# Altium footprint library Button_Switch_SMD.PcbLib: 14 footprints
Each footprint in its own frame and in the unit in brackets; x right, y up, seen from the top. Pads: shape width x height; smd on the part's side, far side on the other; paste and mask are expansions set on the pad; w line width, h text height; cw(c..) or ccw(c..) is an arc to the next point about the centre after c.
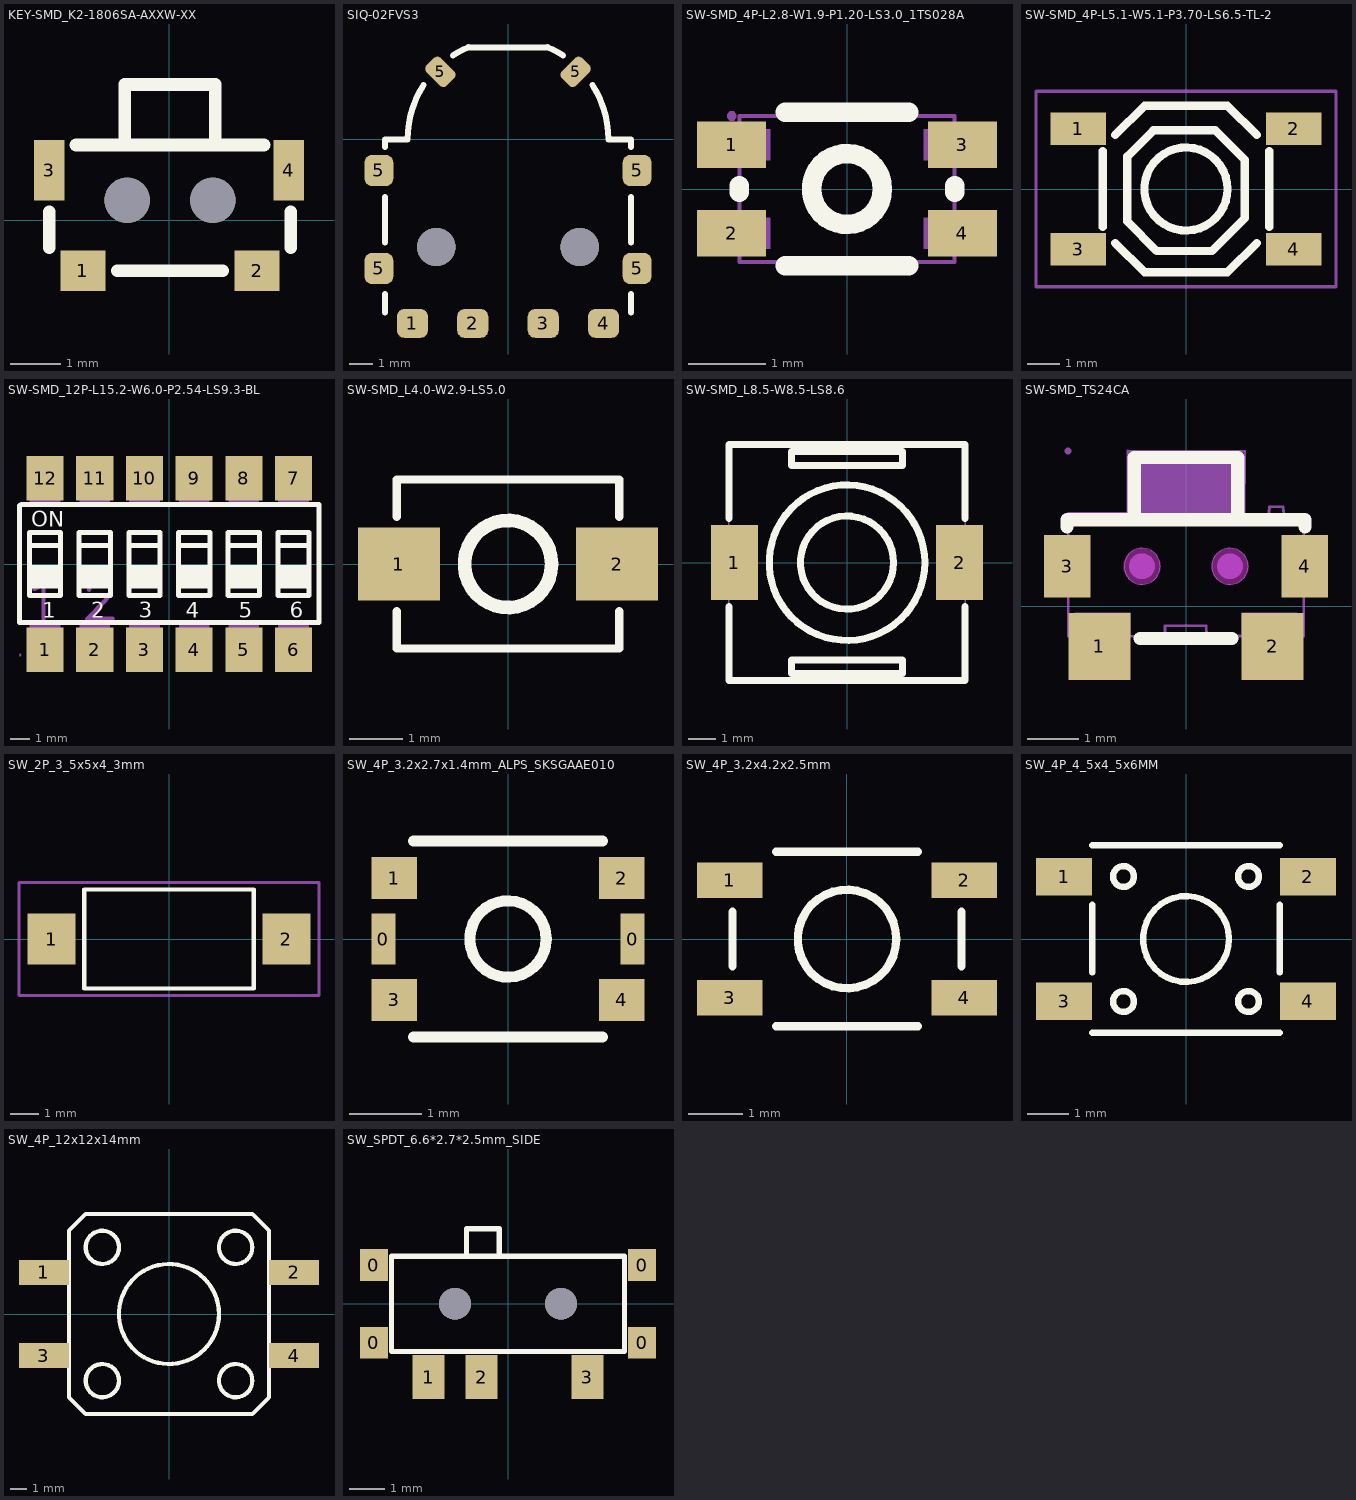
[diagram p0: the footprints below, top view; thin cyan lines are the x and y axes]

## KEY-SMD_K2-1806SA-AXXW-XX [mm]
pads (6):
  rect 0.9x0.8 smd: 1(-1.71,-1) 2(1.75,-1)
  rect 0.6x1.2 smd: 3(-2.38,1) 4(2.38,1)
  round 0.9 hole 0.9 unplated: ""(-0.831,0.4) ""(0.871,0.4)
Top Overlay:
  lines w0.254: -2.38,-0.535 -2.38,0.169 ; -1.029,-1.001 1.069,-1.001 ; 1.889,1.5 0.92,1.5 ; 2.42,-0.535 2.42,0.169 ; -0.88,1.5 0.92,1.5 ; -0.88,1.5 -1.849,1.5 -0.88,1.5 ; -0.88,1.5 -0.88,2.7 0.92,2.7 0.92,1.5
3D body "switch_side.stp": height 1.8, standoff -0.5, extent -2.4,-1.075 2.4,2.625

## SIQ-02FVS3 [mm]
height 4.3
pads (10):
  rrect50% 1.3x1.2 smd: 1(-4,-7.7) 2(-1.475,-7.7) 3(1.475,-7.7) 4(4,-7.7)
  rrect50% 1.2x1.3 smd: 5(-5.4,-5.4) 5(-5.4,-1.3) 5(5.4,-5.4) 5(5.4,-1.3)
  rrect50% 0.85x1.2 smd rot 45: 5(-2.828,2.828)
  rrect50% 0.85x1.2 smd rot 135: 5(2.828,2.828)
via -3,-4.5 diameter 1.6 hole 1.6
via 3,-4.5 diameter 1.6 hole 1.6
Top Overlay:
  lines w0.254: -5.15,-7.25 -5.15,-6.477 ; -5.15,-4.318 -5.15,-2.402 ; -5.15,-0.324 -5.15,0 -4.2,0 cw(c0,0) -3.533,2.271 ; -2.298,3.515 cw(c0,0) -1.655,3.86 ; -1.655,3.85 1.655,3.85 ; 1.655,3.86 cw(c0,0) 2.298,3.515 ; 3.533,2.271 cw(c0,0) 4.2,0 5.15,0 5.15,-0.324 ; 5.15,-7.25 5.15,-6.477 ; 5.15,-4.318 5.15,-2.402
3D body "RE.step": height 4.06, standoff -0.44, extent -7.199,-7.5 7.199,7.25

## SW-SMD_4P-L2.8-W1.9-P1.20-LS3.0_1TS028A [mm]
pads (4):
  rect 0.9x0.6 smd: 1(-1.5,0.575) 2(-1.5,-0.575) 3(1.5,0.575) 4(1.5,-0.575)
Top Overlay:
  circle w0.254: c0,0 r0.461
  lines w0.254: -1.4,-0.044 -1.4,0.044 ; -0.8,-1 0.8,-1 ; -0.8,1 0.8,1 ; 1.4,-0.044 1.4,0.044
Mechanical 15:
  region: -1.44,0.95 -1.44,0.925 -1.475,0.89 -1.525,0.89 -1.56,0.925 -1.56,0.95 -1.56,0.975 -1.525,1.01 -1.475,1.01 -1.44,0.975 -1.44,0.95
  region: -1.5,0.775 -1,0.775 -1,0.375 -1.5,0.375
  region: -1.5,-0.375 -1,-0.375 -1,-0.775 -1.5,-0.775
  region: 1.5,0.375 1,0.375 1,0.775 1.5,0.775
  region: 1.5,-0.775 1,-0.775 1,-0.375 1.5,-0.375
  lines w0.051: -1.4,-0.95 -1.4,0.95 1.4,0.95 1.4,-0.95 -1.4,-0.95
3D body "1.step": height 0.58, standoff 0, extent -1.5,-1.05 1.5,1.05

## SW-SMD_4P-L5.1-W5.1-P3.70-LS6.5-TL-2 [mm]
pads (4):
  rect 1.7x1 smd: 1(-3.3,1.849) 2(3.3,1.85) 3(-3.3,-1.85) 4(3.3,-1.85)
Top Overlay:
  circle w0.254: c0,0 r1.275
  lines w0.254: -2.55,-1.168 -2.55,1.168 ; -2.17,-1.655 -1.275,-2.55 1.275,-2.55 2.17,-1.655 ; -2.17,1.655 -1.275,2.55 1.275,2.55 2.17,1.655 ; 2.55,-1.168 2.55,1.168 ; -1.801,-0.998 -1.801,1.001 -1.001,1.801 0.899,1.801 1.801,0.899 1.801,-0.899 0.8,-1.9 -0.899,-1.9 -1.801,-0.998
Mechanical 15:
  lines w0.102: -4.6,-3 -4.6,3 4.6,3 4.6,-3 -4.6,-3
3D body "SW1.stp": height 1.55, standoff 0, extent -3.2,-2.6 3.2,2.6

## SW-SMD_12P-L15.2-W6.0-P2.54-LS9.3-BL [mm]
pads (12):
  rect 1.9x2.28 smd paste+0.051: 1(-6.35,-4.375) 2(-3.81,-4.375) 3(-1.27,-4.375) 4(1.27,-4.375) 5(3.81,-4.375) 6(6.35,-4.375) 7(6.35,4.375) 8(3.81,4.375) 9(1.27,4.375) 10(-1.27,4.375) 11(-3.81,4.375) 12(-6.35,4.375)
Top Overlay:
  region: 5.673,-0.073 7.027,-0.073 7.027,-1.227 5.673,-1.227
  region: 3.133,-0.073 4.487,-0.073 4.487,-1.227 3.133,-1.227
  region: 0.593,-0.073 1.947,-0.073 1.947,-1.227 0.593,-1.227
  region: -1.947,-0.073 -0.593,-0.073 -0.593,-1.227 -1.947,-1.227
  region: -4.487,-0.073 -3.133,-0.073 -3.133,-1.227 -4.487,-1.227
  region: -7.027,-0.073 -5.673,-0.073 -5.673,-1.227 -7.027,-1.227
  lines w0.254: -7.65,2.95 -7.55,3.05 7.65,3.05 7.65,-3 -7.65,-3 -7.65,3 ; -7.1,0.95 -5.65,0.95 ; -4.56,0.95 -3.11,0.95 ; -2.02,0.95 -0.57,0.95 ; 0.52,0.95 1.97,0.95 ; 3.06,0.95 4.51,0.95 ; 5.6,0.95 7.05,0.95 ; -7.15,-1.6 -7.15,1.6 -5.55,1.6 -5.55,-1.6 -7.15,-1.6 ; -4.61,-1.6 -4.61,1.6 -3.01,1.6 -3.01,-1.6 -4.61,-1.6 ; -2.07,-1.6 -2.07,1.6 -0.47,1.6 -0.47,-1.6 -2.07,-1.6 ; 0.47,-1.6 0.47,1.6 2.07,1.6 2.07,-1.6 0.47,-1.6 ; 3.01,-1.6 3.01,1.6 4.61,1.6 4.61,-1.6 3.01,-1.6 ; 5.55,-1.6 5.55,1.6 7.15,1.6 7.15,-1.6 5.55,-1.6
  text "6" at 6.15,-2.749 h0.8
  text "5" at 3.55,-2.75 h0.8
  text "4" at 0.85,-2.75 h0.8
  text "3" at -1.55,-2.75 h0.8
  text "2" at -4,-2.75 h0.8
  text "1" at -6.5,-2.75 h0.8
  text "ON" at -7.05,1.9 h0.8
Mechanical 4:
  region: -4.204,-1.342 -4.19,-1.378 -4.168,-1.404 -4.126,-1.425 -4.096,-1.425 -4.056,-1.416 -4.037,-1.399 -4.011,-1.367 -4,-1.254 -3.926,-1.11 -3.858,-1.041 -3.706,-0.964 -3.384,-0.966 -3.237,-1.042 -3.162,-1.111 -3.096,-1.252 -3.093,-1.394 -3.345,-1.812 -4.278,-2.748 -4.289,-2.773 -4.296,-2.803 -4.293,-2.833 -4.278,-2.855 -4.25,-2.886 -4.214,-2.905 -2.887,-2.904 -2.872,-2.902 -2.863,-2.899 -2.855,-2.894 -2.846,-2.889 -2.836,-2.881 -2.827,-2.874 -2.816,-2.861 -2.806,-2.843 -2.8,-2.824 -2.798,-2.809 -2.8,-2.788 -2.805,-2.766 -2.815,-2.75 -2.826,-2.735 -2.842,-2.72 -2.865,-2.708 -2.888,-2.702 -3.948,-2.702 -3.186,-1.94 -2.998,-1.654 -2.899,-1.461 -2.888,-1.428 -2.888,-1.221 -2.896,-1.195 -3.001,-0.993 -3.111,-0.88 -3.332,-0.765 -3.745,-0.762 -3.973,-0.871 -4.095,-0.988 -4.202,-1.199 -4.204,-1.25
  region: -6.423,-0.801 -6.446,-0.802 -6.472,-0.807 -6.507,-0.838 -6.764,-1.097 -6.926,-1.175 -6.953,-1.191 -6.969,-1.207 -6.982,-1.23 -6.991,-1.251 -6.992,-1.277 -6.989,-1.298 -6.985,-1.311 -6.975,-1.33 -6.963,-1.344 -6.954,-1.352 -6.938,-1.362 -6.926,-1.367 -6.91,-1.371 -6.895,-1.373 -6.883,-1.372 -6.874,-1.373 -6.861,-1.368 -6.65,-1.265 -6.529,-1.148 -6.529,-2.844 -6.528,-2.858 -6.526,-2.87 -6.522,-2.88 -6.517,-2.891 -6.51,-2.902 -6.502,-2.912 -6.492,-2.921 -6.483,-2.928 -6.474,-2.932 -6.459,-2.939 -6.45,-2.941 -6.439,-2.943 -6.42,-2.944 -6.408,-2.942 -6.4,-2.94 -6.39,-2.937 -6.38,-2.932 -6.367,-2.924 -6.353,-2.911 -6.344,-2.899 -6.335,-2.884 -6.329,-2.867 -6.326,-2.847 -6.327,-0.89 -6.33,-0.873 -6.336,-0.859 -6.345,-0.843 -6.361,-0.825 -6.376,-0.814 -6.393,-0.805 -6.412,-0.801 -6.42,-0.801
Mechanical 7:
  lines w0.051: -7.62,-3 -7.62,3 7.62,3 7.62,-3 -7.62,-3
Mechanical 8:
  region: 5.58,2.99 5.58,3.86 7.12,3.86 7.12,2.99
  region: 5.58,-3.86 5.58,-2.99 7.12,-2.99 7.12,-3.86
  region: -7.12,-3.86 -7.12,-2.99 -5.58,-2.99 -5.58,-3.86
  region: -7.12,2.99 -7.12,3.86 -5.58,3.86 -5.58,2.99
  region: -4.58,2.99 -4.58,3.86 -3.04,3.86 -3.04,2.99
  region: -4.58,-3.86 -4.58,-2.99 -3.04,-2.99 -3.04,-3.86
  region: -2.04,-3.86 -2.04,-2.99 -0.5,-2.99 -0.5,-3.86
  region: -2.04,2.99 -2.04,3.86 -0.5,3.86 -0.5,2.99
  region: 0.5,2.99 0.5,3.86 2.04,3.86 2.04,2.99
  region: 0.5,-3.86 0.5,-2.99 2.04,-2.99 2.04,-3.86
  region: 3.04,-3.86 3.04,-2.99 4.58,-2.99 4.58,-3.86
  region: 3.04,2.99 3.04,3.86 4.58,3.86 4.58,2.99
Mechanical 9:
  region: -7.56,-4.65 -7.56,-4.675 -7.595,-4.71 -7.645,-4.71 -7.68,-4.675 -7.68,-4.65 -7.68,-4.625 -7.645,-4.59 -7.595,-4.59 -7.56,-4.625 -7.56,-4.65
Mechanical 10:
  region: 5.58,3.85 5.58,4.65 7.12,4.65 7.12,3.85
  region: 5.58,-4.65 5.58,-3.85 7.12,-3.85 7.12,-4.65
  region: -7.12,-4.65 -7.12,-3.85 -5.58,-3.85 -5.58,-4.65
  region: -7.12,3.85 -7.12,4.65 -5.58,4.65 -5.58,3.85
  region: -4.58,3.85 -4.58,4.65 -3.04,4.65 -3.04,3.85
  region: -4.58,-4.65 -4.58,-3.85 -3.04,-3.85 -3.04,-4.65
  region: -2.04,-4.65 -2.04,-3.85 -0.5,-3.85 -0.5,-4.65
  region: -2.04,3.85 -2.04,4.65 -0.5,4.65 -0.5,3.85
  region: 0.5,3.85 0.5,4.65 2.04,4.65 2.04,3.85
  region: 0.5,-4.65 0.5,-3.85 2.04,-3.85 2.04,-4.65
  region: 3.04,-4.65 3.04,-3.85 4.58,-3.85 4.58,-4.65
  region: 3.04,3.85 3.04,4.65 4.58,4.65 4.58,3.85
3D body "111111111111.step": height 3.75, standoff -0.4, extent -7.62,-4.65 7.62,4.65

## SW-SMD_L4.0-W2.9-LS5.0 [mm]
pads (2):
  rect 1.53x1.36 smd: 1(-2.035,0) 2(2.035,0)
Top Overlay:
  circle w0.254: c0,0 r0.813
  lines w0.152: -2.076,-0.883 -2.076,-1.576 2.076,-1.576 2.076,-0.883 ; -2.076,0.883 -2.076,1.576 2.076,1.576 2.076,0.883
3D body "sw3x4.stp": height 2.05, standoff 0.04, extent -2.5,-1.45 2.5,1.45

## SW-SMD_L8.5-W8.5-LS8.6 [mm]
pads (2):
  rect 1.7x2.7 smd paste+0 mask+0.051: 1(-4.05,0) 2(4.05,0)
Top Overlay:
  circle w0.254: c0,0 r1.677
  circle w0.254: c0.002,-0.002 r2.8
  lines w0.254: -4.25,-1.581 -4.25,-4.25 4.25,-4.25 4.25,-1.581 ; -4.25,1.581 -4.25,4.25 4.25,4.25 4.25,1.581 ; -2.003,-3.999 1.997,-3.999 1.997,-3.499 -2.003,-3.499 -2.003,-3.999 ; -2,3.5 2,3.5 2,4 -2,4 -2,3.5
Mechanical 15:
  region: -4.3,1.05 -3.3,1.05 -3.3,-1.05 -4.3,-1.05
  region: 4.3,-1.05 3.3,-1.05 3.3,1.05 4.3,1.05
  region: -4.15,-4.25 -4.15,-4.208 -4.208,-4.15 -4.291,-4.15 -4.35,-4.208 -4.35,-4.25 -4.35,-4.291 -4.291,-4.35 -4.208,-4.35 -4.15,-4.291
  lines w0.051: -4.25,-4.25 4.25,-4.25 4.25,4.25 -4.25,4.25 -4.25,-4.25
3D body "111.stp": height 3.7, standoff -0.2, extent -4.5,-4.25 4.5,4.25

## SW-SMD_TS24CA [mm]
pads (4):
  rect 1.2x1.3 smd: 1(-1.675,-0.775) 2(1.675,-0.775)
  rect 0.9x1.2 smd: 3(-2.3,0.775) 4(2.3,0.775)
Top Overlay:
  lines w0.254: -2.3,1.537 -2.3,1.675 2.3,1.675 2.3,1.537 ; -1,1.675 -1,2.875 1,2.875 1,1.675 ; -0.889,-0.625 0.889,-0.625
Keep-Out Layer:
  board cut-out: -0.5,0.775 -0.501,0.844 -0.555,0.971 -0.653,1.067 -0.781,1.119 -0.919,1.119 -1.046,1.067 -1.144,0.97 -1.199,0.844 -1.2,0.775 -1.199,0.706 -1.144,0.579 -1.046,0.483 -0.919,0.431 -0.781,0.431 -0.653,0.483 -0.555,0.579 -0.501,0.706 -0.5,0.775
  board cut-out: 1.2,0.775 1.199,0.844 1.145,0.971 1.047,1.067 0.919,1.119 0.781,1.119 0.654,1.067 0.556,0.97 0.501,0.844 0.5,0.775 0.501,0.706 0.556,0.579 0.654,0.483 0.781,0.431 0.919,0.431 1.047,0.483 1.145,0.579 1.199,0.706 1.2,0.775
Mechanical 1:
  circle w0.005: c-0.85,0.775 r0.35
  circle w0.005: c0.85,0.775 r0.35
Mechanical 6:
  circle w0.25: c0.85,0.775 r0.125
  circle w0.25: c-0.85,0.775 r0.125
  region: -1.016,1.778 -1.016,2.921 1.016,2.921 1.016,1.778
Mechanical 15:
  region: -2.22,3.002 -2.22,3.027 -2.255,3.062 -2.305,3.062 -2.34,3.027 -2.34,3.002 -2.34,2.977 -2.305,2.942 -2.255,2.942 -2.22,2.977 -2.22,3.002
  region: -2.175,0.725 -2.274,0.725 -2.275,0.726 -2.275,1.374 -2.273,1.376 -2.175,1.376 -2.175,0.726 -2.18,0.726 -2.193,0.725
  region: 2.165,0.725 2.275,0.725 2.275,0.726 2.275,1.375 2.166,1.375 2.166,0.726
  region: -2.155,-0.125 -2.155,-0.575 -1.905,-0.575 -1.904,-0.575 -1.904,-0.675 -1.905,-0.675 -1.505,-0.675 -1.505,-0.674 -1.505,-0.575 -1.076,-0.575 -1.075,-0.574 -1.075,-0.125 -1.076,-0.125 -2.154,-0.125 -2.154,-0.126
  region: -2.154,-0.126 -2.154,-0.132 -2.154,-0.126
  region: 2.146,-0.124 2.146,-0.573 1.897,-0.573 1.896,-0.573 1.896,-0.673 1.897,-0.673 1.497,-0.673 1.497,-0.573 1.075,-0.575 1.075,-0.576 1.075,-0.462 1.075,-0.349 1.075,-0.127 1.076,-0.125 2.146,-0.123 2.146,-0.124
  region: 2.146,-0.124 2.146,-0.131 2.146,-0.124
  lines w0.051: -0.406,-0.574 -0.405,-0.374 0.395,-0.375 0.396,-0.575 1.496,-0.575 1.496,-0.675 1.894,-0.675 1.895,-0.575 2.145,-0.574 2.274,-0.577 2.275,1.724 1.897,1.727 1.876,1.926 1.615,1.925 1.595,1.725 1.127,1.727 1.138,3.002 -1.124,3.002 -1.128,1.804 -2.28,1.801 -2.275,-0.575 -1.905,-0.575 -1.904,-0.674 -1.506,-0.674 -1.505,-0.575 -0.406,-0.574 ; -0.406,-0.574 -0.406,-0.574
3D body "SW-SMD_TS24CA.stp": height 1.82, standoff -0.1, extent -2.275,-0.675 2.275,2.925

## SW_2P_3_5x5x4_3mm [mm]
height 4.3
pads (2):
  rect 1.7x1.8 smd: 1(-4.15,0) 2(4.15,0)
Top Overlay:
  lines w0.152: -3,-1.75 -3,1.75 3,1.75 3,-1.75 -3,-1.75
Mechanical 15:
  lines w0.102: -5.3,-2 5.3,-2 5.3,2 -5.3,2 -5.3,-2
3D body "User Library-DTSMF-31.STEP": height 4.35, standoff 0, extent -5,-1.75 5,1.75

## SW_4P_3.2x2.7x1.4mm_ALPS_SKSGAAE010 [mm]
pads (6):
  rect 0.325x0.7 smd: 0(-1.713,0) 0(1.712,0)
  rect 0.625x0.575 smd: 1(-1.562,0.837) 2(1.562,0.837) 3(-1.562,-0.837) 4(1.562,-0.837)
Top Overlay:
  circle w0.152: c0,0 r0.526
  lines w0.152: -1.3,-1.35 1.3,-1.35 ; -1.3,1.35 1.3,1.35
3D body "User Library-SKSGAAE010 3_2x2_7x1_4.STEP": height 1.6, standoff 0, extent -1.75,-1.35 1.75,1.35

## SW_4P_3.2x4.2x2.5mm [mm]
pads (4):
  rect 1.2x0.65 smd: 1(-2.15,1.075) 2(2.15,1.075) 3(-2.15,-1.075) 4(2.15,-1.075)
Top Overlay:
  circle w0.152: c0,0 r0.903
  lines w0.152: -2.1,-0.5 -2.1,0.5 ; -1.3,-1.6 1.3,-1.6 ; -1.3,1.6 1.3,1.6 ; 2.1,-0.5 2.1,0.5

## SW_4P_4_5x4_5x6MM [mm]
pads (4):
  rect 1.35x0.9 smd: 1(-2.925,1.5) 2(2.925,1.5) 3(-2.925,-1.5) 4(2.925,-1.5)
Top Overlay:
  circle w0.152: c0,0 r1.031
  circle w0.152: c1.5,1.5 r0.25
  circle w0.152: c-1.5,1.5 r0.25
  circle w0.152: c1.5,-1.5 r0.25
  circle w0.152: c-1.5,-1.5 r0.25
  lines w0.152: -2.25,-2.25 2.25,-2.25 ; -2.25,-0.804 -2.25,0.825 ; -2.25,2.25 2.25,2.25 ; 2.25,-0.804 2.25,0.825
3D body "btn_4.5.stp": height 6, standoff 0, extent -3.25,-2.25 3.25,2.25

## SW_4P_12x12x14mm [mm]
pads (4):
  rect 3x1.5 smd: 1(-7.5,2.5) 2(7.5,2.5) 3(-7.5,-2.5) 4(7.5,-2.5)
Top Overlay:
  circle w0.254: c-4,4 r1
  circle w0.254: c-4,-4 r1
  circle w0.254: c4,-4 r1
  circle w0.254: c4,4 r1
  circle w0.254: c0,0 r3
  lines w0.254: -6,-5 -6,5 -5,6 4,6 5,6 6,5 6,-5 5,-6 -5,-6 -6,-5
3D body: height 14, standoff 0, extent -2.54,-2.537 2.54,2.537
3D body: height 3.3, standoff 0, extent -6,-6 6,6

## SW_SPDT_6.6*2.7*2.5mm_SIDE [mm]
pads (7):
  rect 0.8x0.9 smd: 0(-3.8,-1.1) 0(-3.8,1.1) 0(3.8,-1.1) 0(3.8,1.1)
  rect 0.9x1.25 smd: 1(-2.25,-2.075) 2(-0.75,-2.075) 3(2.25,-2.075)
via 1.5,0 diameter 0.9 hole 0.9
via -1.5,0 diameter 0.9 hole 0.9
Top Overlay:
  lines w0.152: -1.175,1.35 -1.175,2.125 -0.25,2.125 -0.25,1.35 ; -3.3,-1.35 3.3,-1.35 3.3,1.35 -3.3,1.35 -3.3,-1.35